# Altium footprint library sma_connector.PcbLib: 1 footprints
Each footprint in its own frame and in the unit in brackets; x right, y up, seen from the top. Pads: shape width x height; smd on the part's side, far side on the other; paste and mask are expansions set on the pad; w line width, h text height; cw(c..) or ccw(c..) is an arc to the next point about the centre after c.
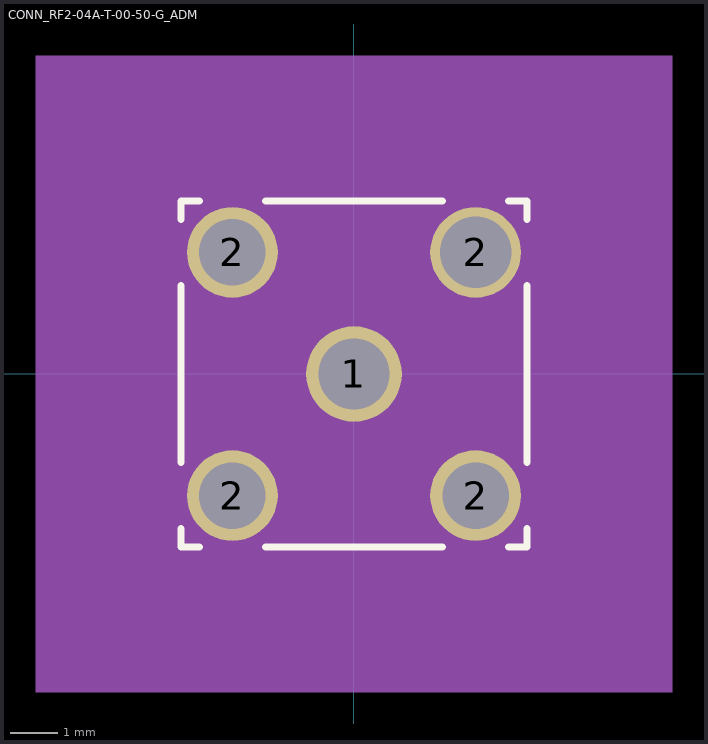
[diagram p0: the footprint, top view; thin cyan lines are the x and y axes]

## CONN_RF2-04A-T-00-50-G_ADM [mil]
pads (5):
  round 79 hole 59: 1(0,0)
  round 75 hole 55 mask+0: 2(-100.5,-100.5) 2(-100.5,100.5) 2(100.5,-100.5)
  round 75 hole 59.06 mask+0: 2(100.5,100.5)
Top Overlay:
  lines w6: -143,-127.96 -143,-143 -127.96,-143 ; -143,-73.04 -143,73.04 ; -143,127.96 -143,143 -127.96,143 ; -73.04,-143 73.04,-143 ; -73.04,143 73.04,143 ; 127.96,-143 143,-143 143,-127.96 ; 127.96,143 143,143 143,127.96 ; 143,-73.04 143,73.04
Mechanical 5:
  region: -263,263 263,263 263,-263 -263,-263
Mechanical 13:
  lines w1: -138,-138 138,-138 138,138 -138,138 -138,-138
Mechanical 15:
  region: 143,-143 -143,-143 -143,143 143,143
  lines w6: -143,-143 -143,143 143,143 143,-143 -143,-143
3D body: height 10, standoff 0, extent 0,0 10,10